# Altium footprint library ublox TOBY.PcbLib: 1 footprints
Each footprint in its own frame and in the unit in brackets; x right, y up, seen from the top. Pads: shape width x height; smd on the part's side, far side on the other; paste and mask are expansions set on the pad; w line width, h text height; cw(c..) or ccw(c..) is an arc to the next point about the centre after c.
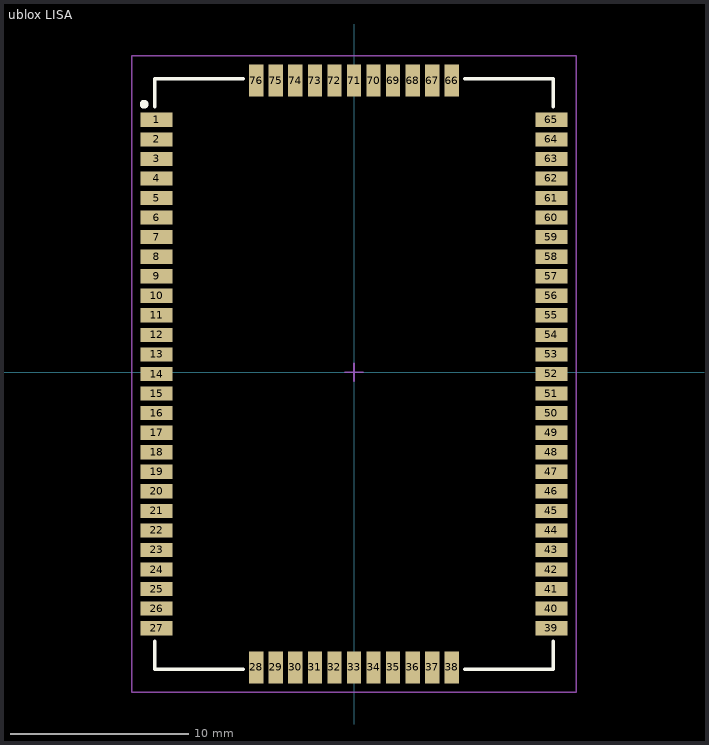
[diagram p0: the footprint, top view; thin cyan lines are the x and y axes]

## ublox LISA [mm] "3.75G HSPA+ Cellular Module"
height 3.25
pads (76):
  rect 1.8x0.8 smd paste-10: 1(-11.1,14.2) 2(-11.1,13.1) 3(-11.1,12) 4(-11.1,10.9) 5(-11.1,9.8) 6(-11.1,8.7) 7(-11.1,7.6) 8(-11.1,6.5) 9(-11.1,5.4) 10(-11.1,4.3) 11(-11.1,3.2) 12(-11.1,2.1) 13(-11.1,1) 14(-11.1,-0.1) 15(-11.1,-1.2) 16(-11.1,-2.3) 17(-11.1,-3.4) 18(-11.1,-4.5) 19(-11.1,-5.6) 20(-11.1,-6.7) 21(-11.1,-7.8) 22(-11.1,-8.9) 23(-11.1,-10) 24(-11.1,-11.1) 25(-11.1,-12.2) 26(-11.1,-13.3) 27(-11.1,-14.4) 39(11.1,-14.4) 40(11.1,-13.3) 41(11.1,-12.2) 42(11.1,-11.1) 43(11.1,-10) 44(11.1,-8.9) 45(11.1,-7.8) 46(11.1,-6.7) 47(11.1,-5.6) 48(11.1,-4.5) 49(11.1,-3.4) 50(11.1,-2.3) 51(11.1,-1.2) 52(11.1,-0.1) 53(11.1,1) 54(11.1,2.1) 55(11.1,3.2) 56(11.1,4.3) 57(11.1,5.4) 58(11.1,6.5) 59(11.1,7.6) 60(11.1,8.7) 61(11.1,9.8) 62(11.1,10.9) 63(11.1,12) 64(11.1,13.1) 65(11.1,14.2)
  rect 0.8x1.8 smd paste-10: 28(-5.5,-16.6) 29(-4.4,-16.6) 30(-3.3,-16.6) 31(-2.2,-16.6) 32(-1.1,-16.6) 33(0,-16.6) 34(1.1,-16.6) 35(2.2,-16.6) 36(3.3,-16.6) 37(4.4,-16.6) 38(5.5,-16.6) 66(5.5,16.4) 67(4.4,16.4) 68(3.3,16.4) 69(2.2,16.4) 70(1.1,16.4) 71(0,16.4) 72(-1.1,16.4) 73(-2.2,16.4) 74(-3.3,16.4) 75(-4.4,16.4) 76(-5.5,16.4)
Top Overlay:
  circle w0.25: c-11.8,15.075 r0.125
  lines w0.2: -11.2,-15.125 -11.2,-16.7 -6.225,-16.7 ; -11.2,14.925 -11.2,16.5 -6.225,16.5 ; 6.225,-16.7 11.2,-16.7 11.2,-15.125 ; 6.225,16.5 11.2,16.5 11.2,14.925
Top Paste:
  drawing of 152 lines, arcs and shapes, not listed
Mechanical 11:
  lines w0.1: -0.5,0 0.5,0 ; 0,-0.5 0,0.5
Mechanical 15:
  lines w0.1: -12.5,-18 -12.5,17.8 12.5,17.8 12.5,-18 -12.5,-18
3D body "ublox LISA.step": height 2.63, standoff 0.03, extent -11.2,-16.8 11.2,16.6